# Altium footprint library QUAN.PcbLib: 216 footprints (part 7 of 14)
Each footprint in its own frame and in the unit in brackets; x right, y up, seen from the top. Pads: shape width x height; smd on the part's side, far side on the other; paste and mask are expansions set on the pad; w line width, h text height; cw(c..) or ccw(c..) is an arc to the next point about the centre after c.
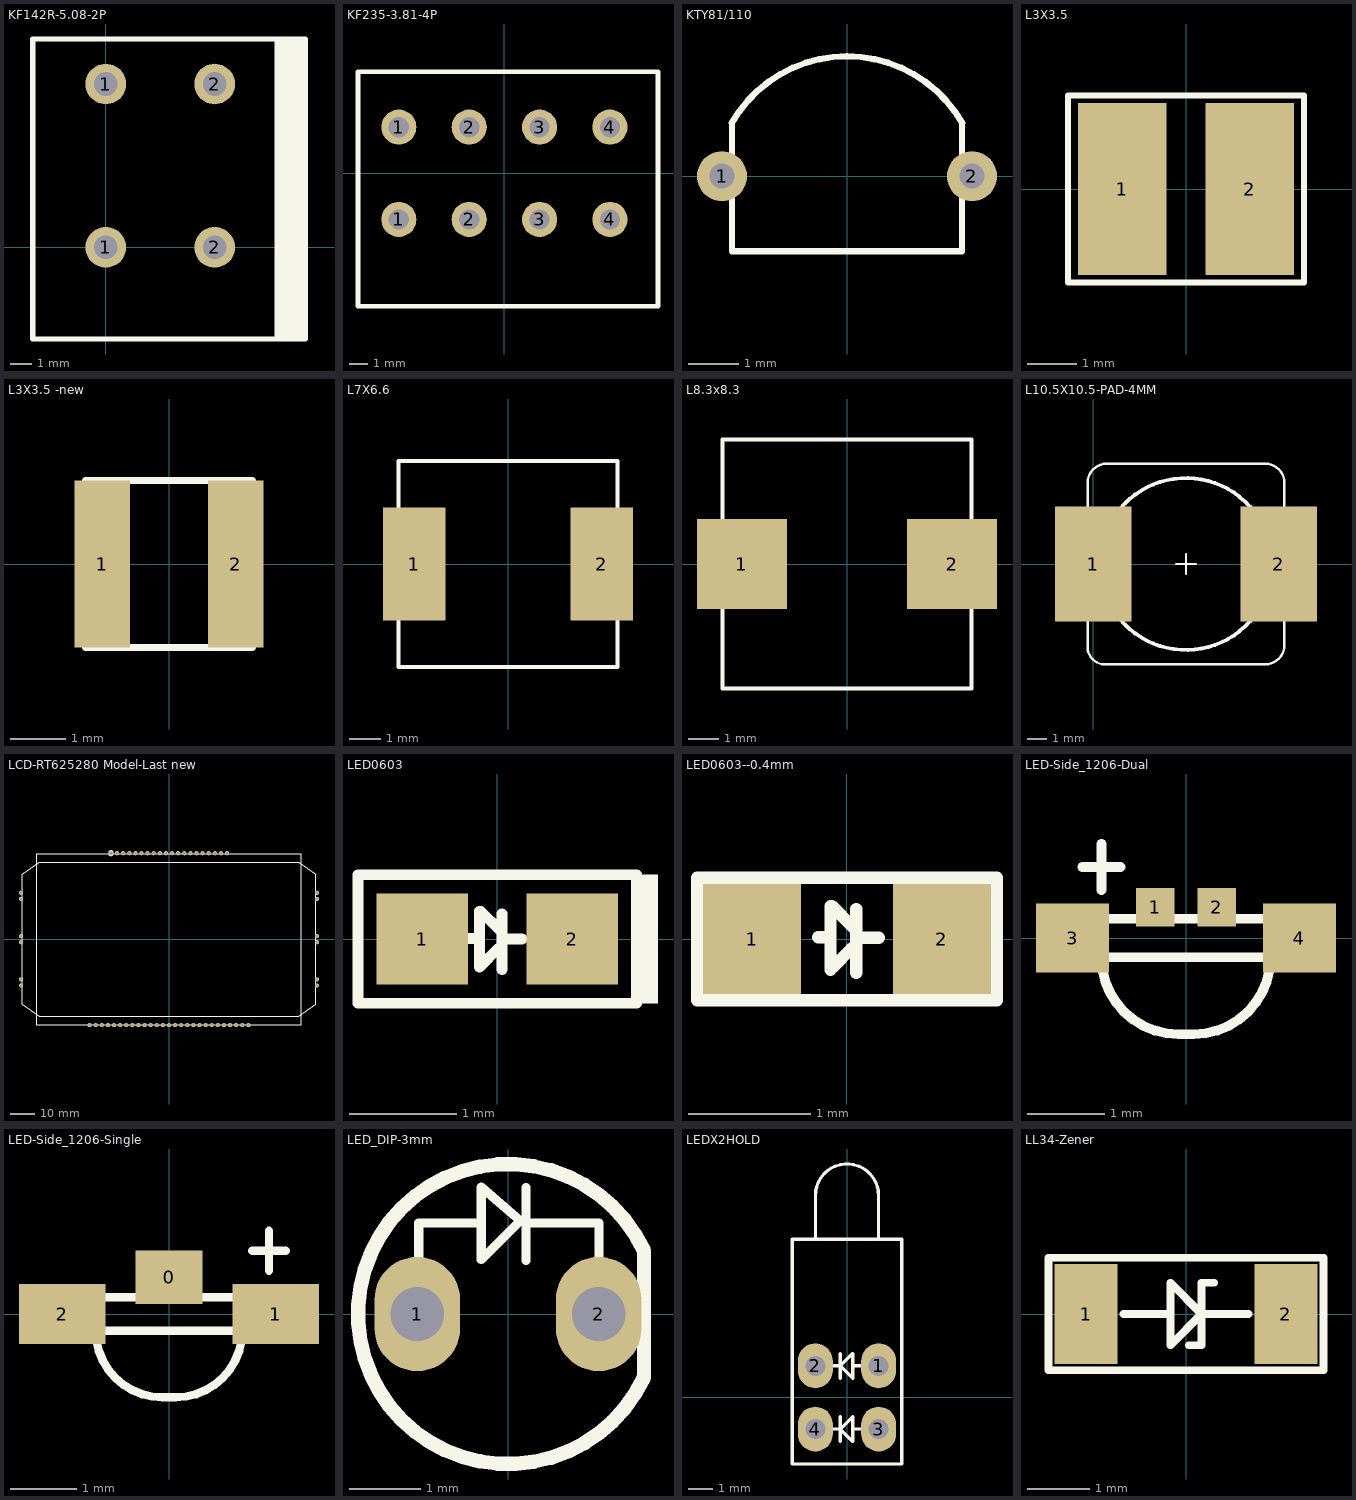
[diagram p6: the footprints below, top view; thin cyan lines are the x and y axes]

## KF142R-5.08-2P [mm] "KF142R-5.08-2P"
pads (4):
  round 1.9 hole 1.1: 1(0,0) 1(0,7.62) 2(5.08,0) 2(5.08,7.62)
Top Overlay:
  rectangle: 8.025,-4.28 9.3,9.72
  lines w0.254: 8,-4.28 8,9.72 ; -3.4,-4.28 9.3,-4.28 9.3,9.72 -3.4,9.72 -3.4,-4.28

## KF235-3.81-4P [mm] "KF235-3.81-4P"
pads (8):
  round 1.9 hole 1.1: 1(-5.715,-2.5) 1(-5.715,2.5) 2(-1.905,-2.5) 2(-1.905,2.5) 3(1.905,-2.5) 3(1.905,2.5) 4(5.715,-2.5) 4(5.715,2.5)
Top Overlay:
  lines w0.254: -7.925,-7.2 8.315,-7.2 8.315,5.5 -7.925,5.5 -7.925,-7.2

## KTY81/110 [mm] "KTY81/110"
pads (2):
  round 1 hole 0.5: 1(-2.5,0) 2(2.5,0)
Top Overlay:
  lines w0.127: -2.305,1.064 cw(c0,-0.256) 0,2.4 cw(c0,-0.256) 2.305,1.064 ; -2.3,1.064 -2.3,-1.5 2.3,-1.5 2.3,1.064

## L3X3.5 [mm]
pads (2):
  rect 1.8x3.5 smd: 1(-1.3,0) 2(1.3,0)
Top Overlay:
  lines w0.127: -2.4,-1.9 -2.4,1.9 2.4,1.9 2.4,-1.9 -2.4,-1.9

## L3X3.5 -new [mm] "L3X3.5 -new"
pads (2):
  rect 1x3 smd: 1(-1.2,0) 2(1.2,0)
Top Overlay:
  lines w0.127: -1.5,-1.5 1.5,-1.5 1.5,1.5 -1.5,1.5 -1.5,-1.5

## L7X6.6 [mm] "L7X6.6"
pads (2):
  rect 2x3.6 smd: 1(-3,0) 2(3,0)
Top Overlay:
  lines w0.127: -3.5,-3.3 -3.5,3.3 3.5,3.3 3.5,-3.3 -3.5,-3.3

## L8.3x8.3 [mm]
pads (2):
  rect 3x3 smd: 1(-3.5,0) 2(3.5,0)
Top Overlay:
  lines w0.127: -4.15,-4.15 -4.15,4.15 4.15,4.15 4.15,-4.15 -4.15,-4.15

## L10.5X10.5-PAD-4MM [mm]
pads (2):
  rect 4x6 smd: 1(0,0) 2(9.7,0)
Top Overlay:
  circle w0.2: c4.846,0 r4.5
  lines w0.127: 4.35,0 5.35,0 ; 4.85,-0.5 4.85,0.5 ; -0.3,-4.35 ccw(c0.6,-4.35) 0.6,-5.25 9,-5.25 ccw(c9,-4.25) 10,-4.25 10,4.25 ccw(c9,4.25) 9,5.25 0.7,5.25 ccw(c0.7,4.25) -0.3,4.25 -0.3,-4.25 -0.3,-4.35

## LCD-RT625280 Model-Last new [mm] "LCD-RT625280 Model-Last new"
pads (59):
  round 1.75 hole 0.9: 1(-24.13,35.75) 2(-21.59,35.75) 3(-19.05,35.75) 4(-16.51,35.75) 5(-13.97,35.75) 6(-11.43,35.75) 7(-8.89,35.75) 8(-6.35,35.75) 9(-3.81,35.75) 10(-1.27,35.75) 11(1.27,35.75) 12(3.81,35.75) 13(6.35,35.75) 14(8.89,35.75) 15(11.43,35.75) 16(13.97,35.75) 17(16.51,35.75) 18(19.05,35.75) 19(21.59,35.75) 20(24.13,35.75) 21(-33.02,-35.75) 22(-30.48,-35.75) 23(-27.94,-35.75) 24(-25.4,-35.75) 25(-22.86,-35.75) 26(-20.32,-35.75) 27(-17.78,-35.75) 28(-15.24,-35.75) 29(-12.7,-35.75) 30(-10.16,-35.75) 31(-7.62,-35.75) 32(-5.08,-35.75) 33(-2.54,-35.75) 34(0,-35.75) 35(2.54,-35.75) 36(5.08,-35.75) 37(7.62,-35.75) 38(10.16,-35.75) 39(12.7,-35.75) 40(15.24,-35.75) 41(17.78,-35.75) 42(20.32,-35.75) 43(22.86,-35.75) 44(25.4,-35.75) 45(27.94,-35.75) 46(30.48,-35.75) 47(33.02,-35.75) L1(-61.5,19.27) L2(-61.5,16.73) L3(-61.5,1.27) L4(-61.5,-1.27) L5(-61.5,-16.73) L6(-61.5,-19.27) L7(61.5,19.27) L8(61.5,16.73) L9(61.5,1.27) L10(61.5,-1.27) L11(61.5,-16.73) L12(61.5,-19.27)
Top Overlay:
  circle w0.2: c-24.125,35.75 r1
  lines w0.2: -61,-27 -54,-32 54,-32 61,-27 61,27 54,32 -54,32 -61,27 ; -61,-27 -61,27 ; -61,-27 -61,27 ; -55,-35.5 -55,35.5 55,35.5 55,-35.5 -55,-35.5

## LED0603 [mm]
pads (2):
  rect 0.85x0.85 smd: 1(-0.7,0) 2(0.7,0)
Top Overlay:
  region: 1.5,0.6 1.3,0.6 1.3,-0.6 1.5,-0.6
  lines w0.1: -0.265,0.005 -0.19,0.005 ; -0.165,-0.261 -0.165,0.259 ; -0.154,0.259 0.015,0.09 ; -0.151,-0.246 0.005,-0.09 ; 0.045,-0.285 0.045,0.235 ; 0.05,0 0.23,0 ; -1.3,-0.6 -1.3,0 -1.3,0.6 1.3,0.6 1.3,-0.6 -1.3,-0.6

## LED0603--0.4mm [mm] "LED0603--0.4mm"
pads (2):
  rect 0.8x0.9 smd: 1(-0.775,0) 2(0.775,0)
Top Overlay:
  lines w0.1: -0.235,0.015 -0.16,0.015 ; -0.135,-0.251 -0.135,0.269 ; -0.124,0.269 0.045,0.1 ; -0.121,-0.236 0.035,-0.08 ; 0.075,-0.275 0.075,0.245 ; 0.08,0.01 0.26,0.01 ; -1.225,-0.5 1.225,-0.5 1.225,0.5 -1.225,0.5 -1.225,-0.5

## LED-Side_1206-Dual [mm] "LED-Side_1206-Dual"
pads (4):
  rect 0.5x0.5 smd: 1(-0.4,0.4) 2(0.4,0.4)
  rect 0.95x0.9 smd: 3(-1.475,0) 4(1.475,0)
Top Overlay:
  lines w0.127: -1.35,0.925 -0.85,0.925 ; -1.1,-0.25 ccw(c-0.1,-0.25) -0.1,-1.25 0.1,-1.25 ccw(c0.1,-0.25) 1.1,-0.25 ; -1.1,0.625 -1.1,1.225 ; -1.6,-0.25 -1.6,0.25 1.6,0.25 1.6,-0.25 -1.6,-0.25

## LED-Side_1206-Single [mm] "LED-Side_1206-Single"
pads (3):
  rect 1x0.8 smd: 0(0,0.55)
  rect 1.3x0.9 smd: 1(1.6,0) 2(-1.6,0)
Top Overlay:
  lines w0.127: -1.1,-0.25 ccw(c-0.1,-0.25) -0.1,-1.25 0.1,-1.25 ccw(c0.1,-0.25) 1.1,-0.25 ; 1.25,0.95 1.75,0.95 ; 1.5,0.65 1.5,1.25 ; -1.6,-0.25 -1.6,0.25 1.6,0.25 1.6,-0.25 -1.6,-0.25

## LED_DIP-3mm [mm] "LED_DIP-3mm"
pads (2):
  oval 1.2x1.6 hole 0.75: 1(-1.27,0) 2(1.27,0)
Top Overlay:
  lines w0.127: -1.25,0.725 -1.25,1.275 -0.375,1.275 ; 0.25,0.75 0.25,1.774 ; 0.25,1.275 1.275,1.275 1.275,0.392 ; -0.375,0.762 -0.375,1.775 0.169,1.306 -0.375,0.762
  lines w0.2: 1.903,-0.887 cw(c0,0) 1.903,0.887 1.903,-0.887

## LEDX2HOLD [mm]
pads (4):
  oval 1.4x1.8 hole 0.8: 1(1.27,1.27) 2(-1.27,1.27) 3(1.27,-1.27) 4(-1.27,-1.27)
Top Overlay:
  lines w0.127: -1.27,-1.27 -0.27,-1.27 ; -1.27,1.27 -0.27,1.27 ; -1.27,6.35 -1.27,8.1 ; -1.27,8.097 cw(c0,8.1) 1.27,8.097 ; -0.27,-1.77 -0.27,-0.77 ; -0.27,0.77 -0.27,1.77 ; 0.229,-1.269 1.269,-1.269 ; 0.229,1.271 1.269,1.271 ; 1.27,6.35 1.27,8.1 ; -2.2,-2.67 2.2,-2.67 2.2,6.35 -2.2,6.35 -2.2,-2.67 ; -0.269,-1.271 0.23,-1.77 0.23,-0.77 -0.269,-1.269 ; -0.269,1.269 0.23,0.77 0.23,1.77 -0.269,1.271

## LL34-Zener [mm] "LL34-Zener"
pads (2):
  rect 1x1.6 smd: 1(-1.6,0) 2(1.6,0)
Top Overlay:
  lines w0.127: -1,0 -0.25,0 ; 0.05,-0.5 0.25,-0.5 0.25,0.5 0.45,0.5 ; 1,0 0.25,0 ; 0.25,0 -0.25,0.5 -0.25,-0.5 0.25,0 ; -2.2,-0.9 2.2,-0.9 2.2,0.9 -2.2,0.9 -2.2,-0.9